# Altium schematic symbol library assets.schlib: 4 symbols
Pins are listed as number, name and electrical type; pins without a type are passive.

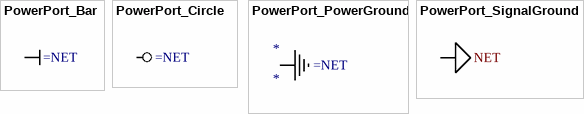
[diagram p0: symbols PowerPort_Bar to PowerPort_SignalGround]

## PowerPort_Bar
designator *  (value not drawn)  (graphical)

## PowerPort_Circle
designator *  (value not drawn)  (graphical)

## PowerPort_PowerGround
designator *  (graphical)

## PowerPort_SignalGround
designator *  (value not drawn)  (graphical)
text: NET